# Altium footprint library Components - 24.12.23 - 11.08.PcbLib: 1 footprints
Each footprint in its own frame and in the unit in brackets; x right, y up, seen from the top. Pads: shape width x height; smd on the part's side, far side on the other; paste and mask are expansions set on the pad; w line width, h text height; cw(c..) or ccw(c..) is an arc to the next point about the centre after c.
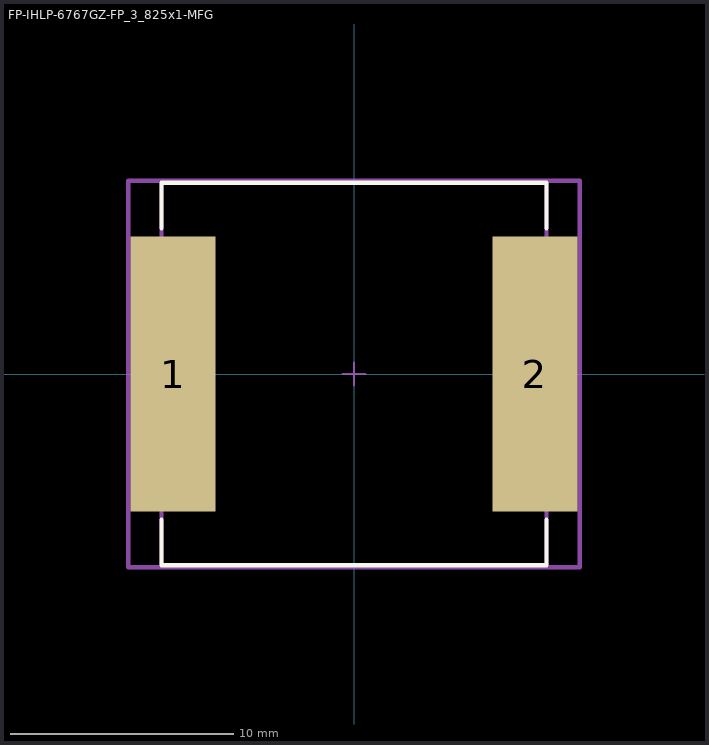
[diagram p0: the footprint, top view; thin cyan lines are the x and y axes]

## FP-IHLP-6767GZ-FP_3_825x1-MFG [mm]
pads (2):
  rect 3.825x12.32 smd paste+0 mask+0: 1(-8.117,0) 2(8.117,0)
Top Overlay:
  lines w0.2: -8.638,-6.535 -8.638,-8.575 8.638,-8.575 8.638,-6.535 ; -8.638,6.535 -8.638,8.575 8.638,8.575 8.638,6.535
Top Assembly:
  lines w0.2: -10.13,-8.675 -10.13,8.675 10.13,8.675 10.13,-8.675 -10.13,-8.675
  text ".Designator" at 0,0.188 h1
Top 3D Body:
  lines w0.2: -8.638,-8.575 -8.638,8.575 8.638,8.575 8.638,-8.575 -8.638,-8.575
Top Courtyard:
  lines w0.2: -10.13,-8.675 -10.13,8.675 10.13,8.675 10.13,-8.675 -10.13,-8.675
Top Component Center:
  lines w0.1: -0.5,0 0.5,0 ; 0,-0.5 0,0.5
3D body "Ind_Vishay_IHLP6767GZER1R5M11_eec.STEP": height 0.25, standoff 0, extent -10.13,-8.675 10.13,8.675